# Altium integrated library Tranzistor.IntLib: 3 symbols
Pins are listed as number, name and electrical type; pins without a type are passive.

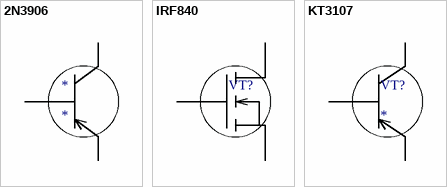
[diagram p0: symbols 2N3906 to KT3107]

## 2N3906
designator *
footprint TO-92
pins: 1 К, 2 Б, 3 Э

## IRF840
designator VT?  (value not drawn)
footprint TO220
footprint D2-pak
pins: 1 з, 2 с, 3 и

## KT3107
designator VT?
footprint TO-92
pins: 1 К, 2 Б, 3 Э